# Altium schematic symbol library Real-Time Clocks (RTCs).SchLib: 548 symbols (part 9 of 13)
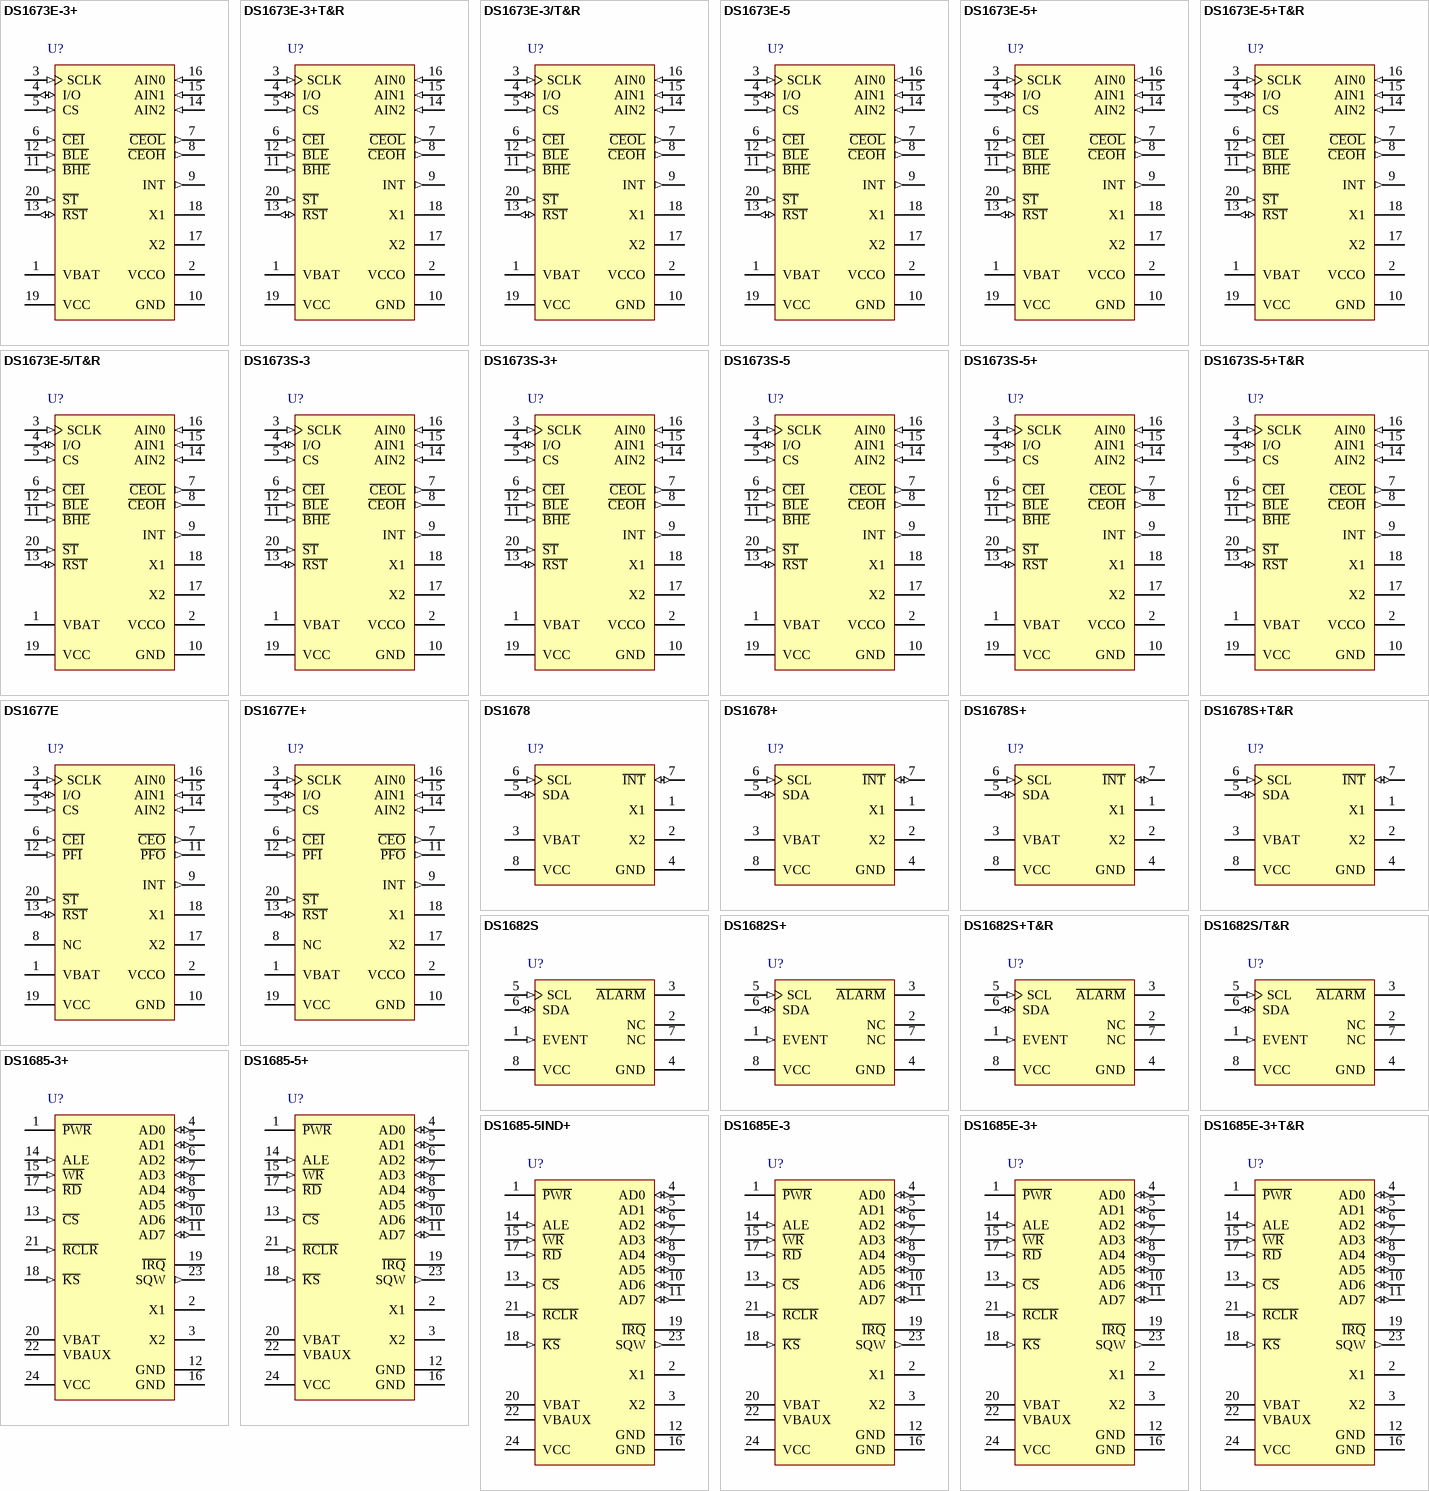
[diagram p29: symbols DS1673E-3+ to DS1685E-3+T&R]

## DS1682S+
designator U?
I2C-Compatible Total Elapsed Time Recorder with Alarm, 8-Pin SO, -40 to 85 degC, Pb-Free; DatasheetVersion: Oct-2005; PackageVersion: revC, 2010; PackageReference: S8+5; PackageDescription: 8-Pin Small-Outline IC, Narrow (0.15in), 1.27 mm Pitch, SOIC (N), Pb-Free; Code_JEDEC: MS-012-AA; Code_IPC: SOIC127P600-8; ComponentLink1Description: Manufacturer URL; ComponentLink1URL: http://www.maxim-ic.com; ComponentLink2Description: Datasheet; ComponentLink2URL: http://datasheets.maxim-ic.com/en/ds/DS1682.pdf; ComponentLink3Description: Package Specification; ComponentLink3URL: http://pdfserv.maxim-ic.com/package_dwgs/21-0041.PDF
footprint S8+5_N (SOIC, 8-Leads, Body 4.9x3.9mm, Pitch 1.27mm, IPC Medium Density)
footprint S8+5_L (SOIC, 8-Leads, Body 4.9x3.9mm, Pitch 1.27mm, IPC High Density)
footprint S8+5_M (SOIC, 8-Leads, Body 4.9x3.9mm, Pitch 1.27mm, IPC Low Density)
pins: 1 EVENT (in), 2 NC, 3 ~{ALARM} (oc), 4 GND (power), 5 SCL (in), 6 SDA (io), 7 NC, 8 VCC (power)

## DS1682S+T&R
designator U?
I2C-Compatible Total Elapsed Time Recorder with Alarm, 8-Pin SO, -40 to 85 degC, Pb-Free, Reel; DatasheetVersion: Oct-2005; PackageVersion: revC, 2010; PackageReference: S8+5; PackageDescription: 8-Pin Small-Outline IC, Narrow (0.15in), 1.27 mm Pitch, SOIC (N), Pb-Free; Code_JEDEC: MS-012-AA; Code_IPC: SOIC127P600-8; ComponentLink1Description: Manufacturer URL; ComponentLink1URL: http://www.maxim-ic.com; ComponentLink2Description: Datasheet; ComponentLink2URL: http://datasheets.maxim-ic.com/en/ds/DS1682.pdf; ComponentLink3Description: Package Specification; ComponentLink3URL: http://pdfserv.maxim-ic.com/package_dwgs/21-0041.PDF
footprint S8+5_N (SOIC, 8-Leads, Body 4.9x3.9mm, Pitch 1.27mm, IPC Medium Density)
footprint S8+5_L (SOIC, 8-Leads, Body 4.9x3.9mm, Pitch 1.27mm, IPC High Density)
footprint S8+5_M (SOIC, 8-Leads, Body 4.9x3.9mm, Pitch 1.27mm, IPC Low Density)
pins: 1 EVENT (in), 2 NC, 3 ~{ALARM} (oc), 4 GND (power), 5 SCL (in), 6 SDA (io), 7 NC, 8 VCC (power)

## DS1682S/T&R
designator U?
I2C-Compatible Total Elapsed Time Recorder with Alarm, 8-Pin SO, -40 to 85 degC, Reel; DatasheetVersion: Oct-2005; PackageVersion: revC, 2010; PackageReference: S8-2; PackageDescription: 8-Pin Small-Outline IC, Narrow (0.15in), 1.27 mm Pitch, SOIC (N); Code_JEDEC: MS-012-AA; Code_IPC: SOIC127P600-8; ComponentLink1Description: Manufacturer URL; ComponentLink1URL: http://www.maxim-ic.com; ComponentLink2Description: Datasheet; ComponentLink2URL: http://datasheets.maxim-ic.com/en/ds/DS1682.pdf; ComponentLink3Description: Package Specification; ComponentLink3URL: http://pdfserv.maxim-ic.com/package_dwgs/21-0041.PDF
footprint S8-2_N (SOIC, 8-Leads, Body 4.9x3.9mm, Pitch 1.27mm, IPC Medium Density)
footprint S8-2_L (SOIC, 8-Leads, Body 4.9x3.9mm, Pitch 1.27mm, IPC High Density)
footprint S8-2_M (SOIC, 8-Leads, Body 4.9x3.9mm, Pitch 1.27mm, IPC Low Density)
pins: 1 EVENT (in), 2 NC, 3 ~{ALARM} (oc), 4 GND (power), 5 SCL (in), 6 SDA (io), 7 NC, 8 VCC (power)

## DS1685-3+
designator U?
Real-Time Clock, 242 Byte Battery-Backed NV RAM, 3.0V, 24-Pin PDIP, 0 to 70 degC, Pb-Free; DatasheetVersion: Apr-2010; PackageVersion: revD, 2011; PackageReference: P24+3; PackageDescription: 24-Pin Plastic Dual-In-Line, 0.6in Wide, PDIP(W), Pb-Free; Code_JEDEC: MS-011-AA; ComponentLink1Description: Manufacturer URL; ComponentLink1URL: http://www.maxim-ic.com; ComponentLink2Description: Datasheet; ComponentLink2URL: http://datasheets.maxim-ic.com/en/ds/DS1685-DS1687.pdf; ComponentLink3Description: Package Specification; ComponentLink3URL: http://pdfserv.maxim-ic.com/package_dwgs/21-0044.PDF
footprint P24+3 (DIP, 24-Leads, Row Spacing 15.24mm, Pitch 2.54mm, Body 31.8x14mm)
pins: 1 ~{PWR} (oc), 2 X1, 3 X2, 4 AD0 (io), 5 AD1 (io), 6 AD2 (io), 7 AD3 (io), 8 AD4 (io), 9 AD5 (io), 10 AD6 (io), 11 AD7 (io), 12 GND (power), 13 ~{CS} (in), 14 ALE (in), 15 ~{WR} (in), 16 GND (power), 17 ~{RD} (in), 18 ~{KS} (in), 19 ~{IRQ} (oc), 20 VBAT (power), 21 ~{RCLR} (in), 22 VBAUX (power), 23 SQW (out), 24 VCC (power)

## DS1685-5+
designator U?
Real-Time Clock, 242 Byte Battery-Backed NV RAM, 5.0V, 24-Pin PDIP, 0 to 70 degC, Pb-Free; DatasheetVersion: Apr-2010; PackageVersion: revD, 2011; PackageReference: P24+3; PackageDescription: 24-Pin Plastic Dual-In-Line, 0.6in Wide, PDIP(W), Pb-Free; Code_JEDEC: MS-011-AA; ComponentLink1Description: Manufacturer URL; ComponentLink1URL: http://www.maxim-ic.com; ComponentLink2Description: Datasheet; ComponentLink2URL: http://datasheets.maxim-ic.com/en/ds/DS1685-DS1687.pdf; ComponentLink3Description: Package Specification; ComponentLink3URL: http://pdfserv.maxim-ic.com/package_dwgs/21-0044.PDF
footprint P24+3 (DIP, 24-Leads, Row Spacing 15.24mm, Pitch 2.54mm, Body 31.8x14mm)
pins: 1 ~{PWR} (oc), 2 X1, 3 X2, 4 AD0 (io), 5 AD1 (io), 6 AD2 (io), 7 AD3 (io), 8 AD4 (io), 9 AD5 (io), 10 AD6 (io), 11 AD7 (io), 12 GND (power), 13 ~{CS} (in), 14 ALE (in), 15 ~{WR} (in), 16 GND (power), 17 ~{RD} (in), 18 ~{KS} (in), 19 ~{IRQ} (oc), 20 VBAT (power), 21 ~{RCLR} (in), 22 VBAUX (power), 23 SQW (out), 24 VCC (power)

## DS1685-5IND+
designator U?
Real-Time Clock, 242 Byte Battery-Backed NV RAM, 5.0V, 24-Pin PDIP, -40 to 85 degC, Pb-Free; DatasheetVersion: Apr-2010; PackageVersion: revD, 2011; PackageReference: P24+3; PackageDescription: 24-Pin Plastic Dual-In-Line, 0.6in Wide, PDIP(W), Pb-Free; Code_JEDEC: MS-011-AA; ComponentLink1Description: Manufacturer URL; ComponentLink1URL: http://www.maxim-ic.com; ComponentLink2Description: Datasheet; ComponentLink2URL: http://datasheets.maxim-ic.com/en/ds/DS1685-DS1687.pdf; ComponentLink3Description: Package Specification; ComponentLink3URL: http://pdfserv.maxim-ic.com/package_dwgs/21-0044.PDF
footprint P24+3 (DIP, 24-Leads, Row Spacing 15.24mm, Pitch 2.54mm, Body 31.8x14mm)
pins: 1 ~{PWR} (oc), 2 X1, 3 X2, 4 AD0 (io), 5 AD1 (io), 6 AD2 (io), 7 AD3 (io), 8 AD4 (io), 9 AD5 (io), 10 AD6 (io), 11 AD7 (io), 12 GND (power), 13 ~{CS} (in), 14 ALE (in), 15 ~{WR} (in), 16 GND (power), 17 ~{RD} (in), 18 ~{KS} (in), 19 ~{IRQ} (oc), 20 VBAT (power), 21 ~{RCLR} (in), 22 VBAUX (power), 23 SQW (out), 24 VCC (power)

## DS1685E-3
designator U?
Real-Time Clock, 242 Byte Battery-Backed NV RAM, 3.0V, 24-Pin TSSOP, 0 to 70 degC; DatasheetVersion: Apr-2010; PackageVersion: revL, 2010; PackageReference: U24-1; PackageDescription: 24-Pin Thin Shrink Small-Outline Package, 4.4 mm Body, TSSOP; Code_JEDEC: MO-153-AD; ComponentLink1Description: Manufacturer URL; ComponentLink1URL: http://www.maxim-ic.com; ComponentLink2Description: Datasheet; ComponentLink2URL: http://datasheets.maxim-ic.com/en/ds/DS1685-DS1687.pdf; ComponentLink3Description: Package Specification; ComponentLink3URL: http://pdfserv.maxim-ic.com/package_dwgs/21-0066.PDF
footprint U24-1_N (TSOP, 24-Leads, Body 7.8x4.4mm, Pitch 0.65mm, IPC Medium Density)
footprint U24-1_L (TSOP, 24-Leads, Body 7.8x4.4mm, Pitch 0.65mm, IPC High Density)
footprint U24-1_M (TSOP, 24-Leads, Body 7.8x4.4mm, Pitch 0.65mm, IPC Low Density)
pins: 1 ~{PWR} (oc), 2 X1, 3 X2, 4 AD0 (io), 5 AD1 (io), 6 AD2 (io), 7 AD3 (io), 8 AD4 (io), 9 AD5 (io), 10 AD6 (io), 11 AD7 (io), 12 GND (power), 13 ~{CS} (in), 14 ALE (in), 15 ~{WR} (in), 16 GND (power), 17 ~{RD} (in), 18 ~{KS} (in), 19 ~{IRQ} (oc), 20 VBAT (power), 21 ~{RCLR} (in), 22 VBAUX (power), 23 SQW (out), 24 VCC (power)

## DS1685E-3+
designator U?
Real-Time Clock, 242 Byte Battery-Backed NV RAM, 3.0V, 24-Pin TSSOP, 0 to 70 degC, Pb-Free; DatasheetVersion: Apr-2010; PackageVersion: revL, 2010; PackageReference: U24+1; PackageDescription: 24-Pin Thin Shrink Small-Outline Package, 4.4 mm Body, TSSOP, Pb-Free; Code_JEDEC: MO-153-AD; ComponentLink1Description: Manufacturer URL; ComponentLink1URL: http://www.maxim-ic.com; ComponentLink2Description: Datasheet; ComponentLink2URL: http://datasheets.maxim-ic.com/en/ds/DS1685-DS1687.pdf; ComponentLink3Description: Package Specification; ComponentLink3URL: http://pdfserv.maxim-ic.com/package_dwgs/21-0066.PDF
footprint U24+1_N (TSOP, 24-Leads, Body 7.8x4.4mm, Pitch 0.65mm, IPC Medium Density)
footprint U24+1_L (TSOP, 24-Leads, Body 7.8x4.4mm, Pitch 0.65mm, IPC High Density)
footprint U24+1_M (TSOP, 24-Leads, Body 7.8x4.4mm, Pitch 0.65mm, IPC Low Density)
pins: 1 ~{PWR} (oc), 2 X1, 3 X2, 4 AD0 (io), 5 AD1 (io), 6 AD2 (io), 7 AD3 (io), 8 AD4 (io), 9 AD5 (io), 10 AD6 (io), 11 AD7 (io), 12 GND (power), 13 ~{CS} (in), 14 ALE (in), 15 ~{WR} (in), 16 GND (power), 17 ~{RD} (in), 18 ~{KS} (in), 19 ~{IRQ} (oc), 20 VBAT (power), 21 ~{RCLR} (in), 22 VBAUX (power), 23 SQW (out), 24 VCC (power)

## DS1685E-3+T&R
designator U?
Real-Time Clock, 242 Byte Battery-Backed NV RAM, 3.0V, 24-Pin TSSOP, 0 to 70 degC, Pb-Free, Reel; DatasheetVersion: Apr-2010; PackageVersion: revL, 2010; PackageReference: U24+1; PackageDescription: 24-Pin Thin Shrink Small-Outline Package, 4.4 mm Body, TSSOP, Pb-Free; Code_JEDEC: MO-153-AD; ComponentLink1Description: Manufacturer URL; ComponentLink1URL: http://www.maxim-ic.com; ComponentLink2Description: Datasheet; ComponentLink2URL: http://datasheets.maxim-ic.com/en/ds/DS1685-DS1687.pdf; ComponentLink3Description: Package Specification; ComponentLink3URL: http://pdfserv.maxim-ic.com/package_dwgs/21-0066.PDF
footprint U24+1_N (TSOP, 24-Leads, Body 7.8x4.4mm, Pitch 0.65mm, IPC Medium Density)
footprint U24+1_L (TSOP, 24-Leads, Body 7.8x4.4mm, Pitch 0.65mm, IPC High Density)
footprint U24+1_M (TSOP, 24-Leads, Body 7.8x4.4mm, Pitch 0.65mm, IPC Low Density)
pins: 1 ~{PWR} (oc), 2 X1, 3 X2, 4 AD0 (io), 5 AD1 (io), 6 AD2 (io), 7 AD3 (io), 8 AD4 (io), 9 AD5 (io), 10 AD6 (io), 11 AD7 (io), 12 GND (power), 13 ~{CS} (in), 14 ALE (in), 15 ~{WR} (in), 16 GND (power), 17 ~{RD} (in), 18 ~{KS} (in), 19 ~{IRQ} (oc), 20 VBAT (power), 21 ~{RCLR} (in), 22 VBAUX (power), 23 SQW (out), 24 VCC (power)

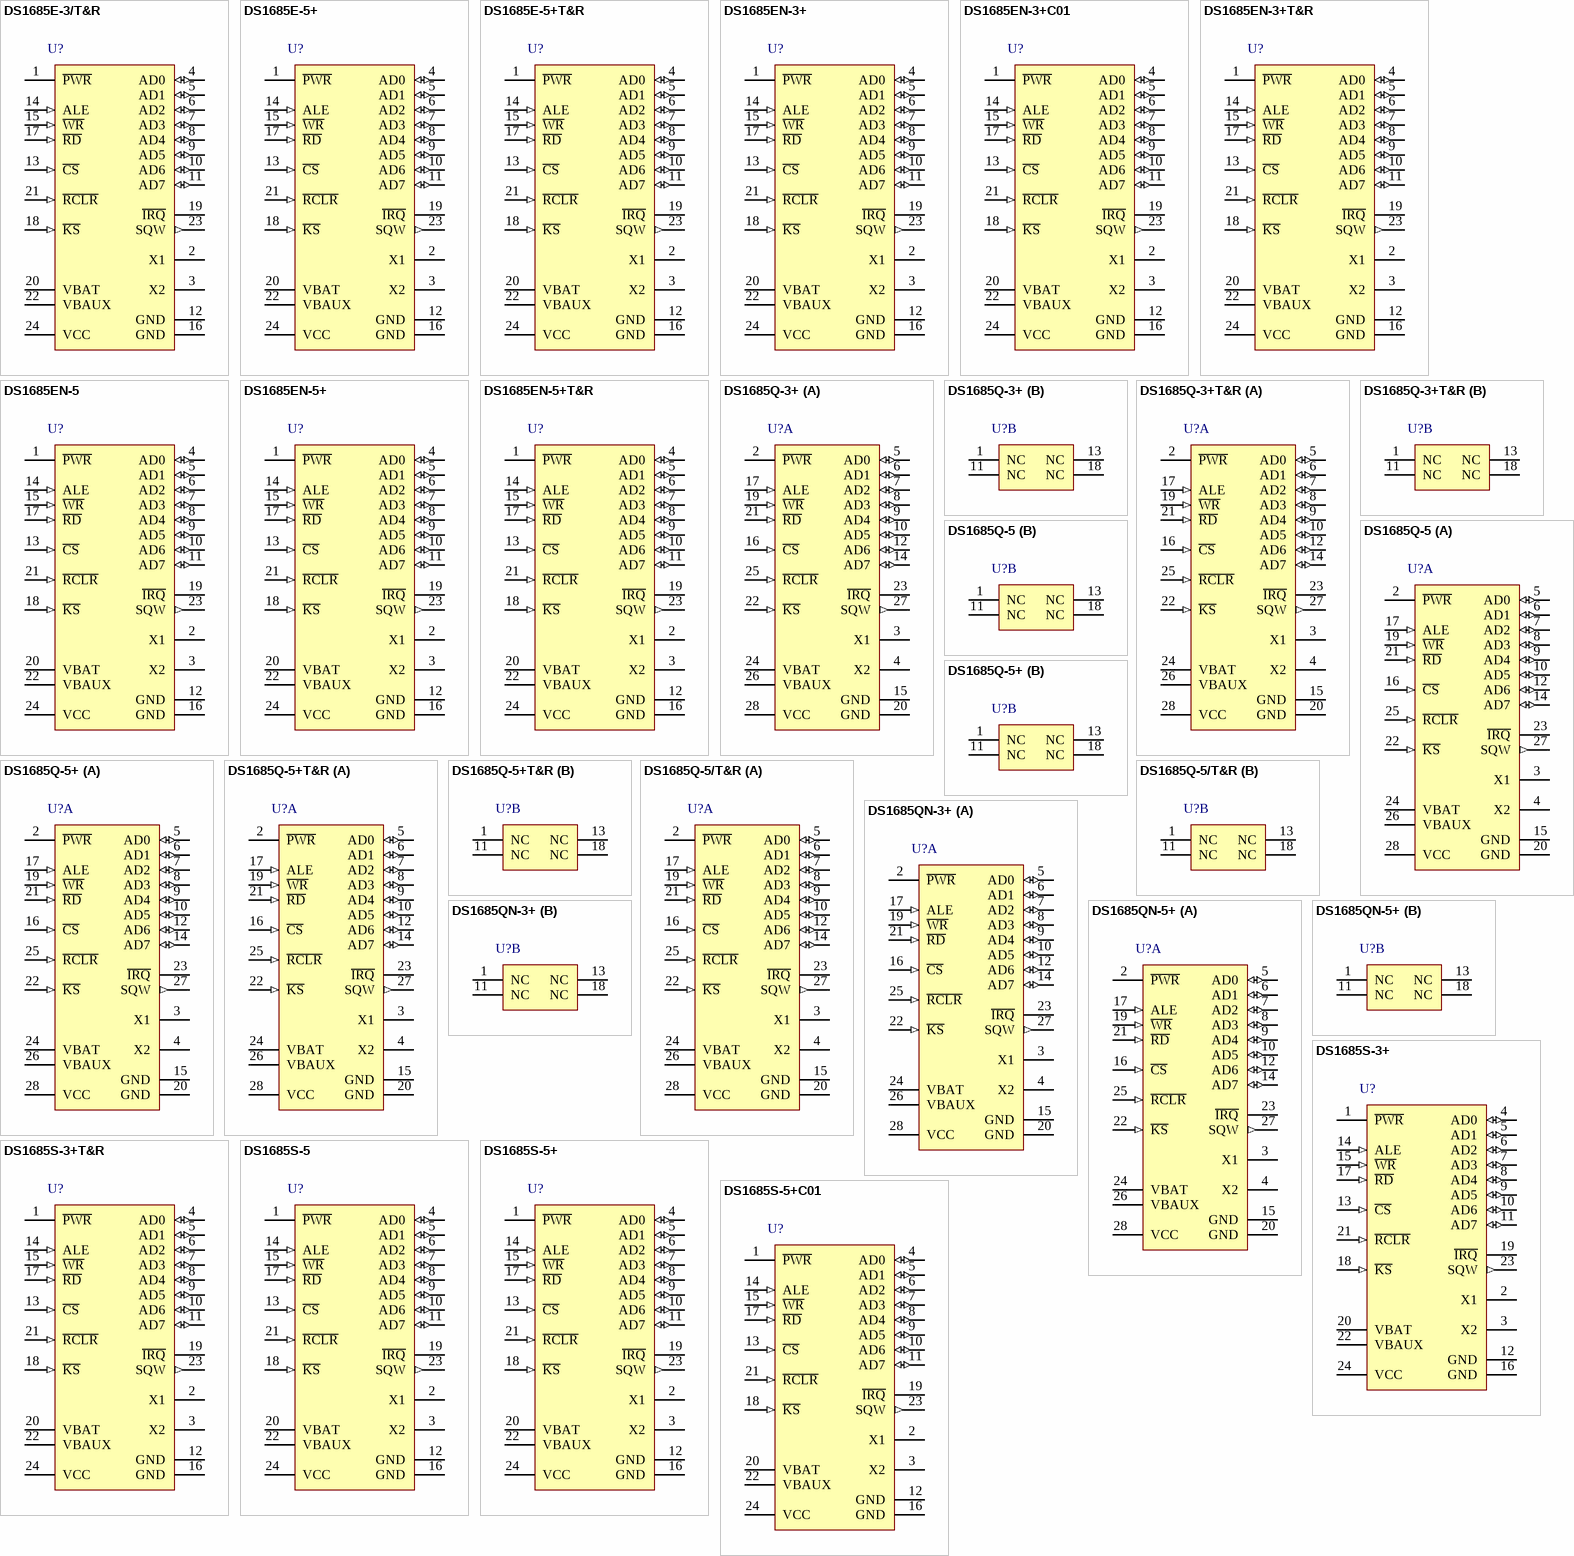
[diagram p14: symbols DS1685E-3/T&R to DS1685S-5+C01]

## DS1685E-3/T&R
designator U?
Real-Time Clock, 242 Byte Battery-Backed NV RAM, 3.0V, 24-Pin TSSOP, 0 to 70 degC, Reel; DatasheetVersion: Apr-2010; PackageVersion: revL, 2010; PackageReference: U24-1; PackageDescription: 24-Pin Thin Shrink Small-Outline Package, 4.4 mm Body, TSSOP; Code_JEDEC: MO-153-AD; ComponentLink1Description: Manufacturer URL; ComponentLink1URL: http://www.maxim-ic.com; ComponentLink2Description: Datasheet; ComponentLink2URL: http://datasheets.maxim-ic.com/en/ds/DS1685-DS1687.pdf; ComponentLink3Description: Package Specification; ComponentLink3URL: http://pdfserv.maxim-ic.com/package_dwgs/21-0066.PDF
footprint U24-1_N (TSOP, 24-Leads, Body 7.8x4.4mm, Pitch 0.65mm, IPC Medium Density)
footprint U24-1_L (TSOP, 24-Leads, Body 7.8x4.4mm, Pitch 0.65mm, IPC High Density)
footprint U24-1_M (TSOP, 24-Leads, Body 7.8x4.4mm, Pitch 0.65mm, IPC Low Density)
pins: 1 ~{PWR} (oc), 2 X1, 3 X2, 4 AD0 (io), 5 AD1 (io), 6 AD2 (io), 7 AD3 (io), 8 AD4 (io), 9 AD5 (io), 10 AD6 (io), 11 AD7 (io), 12 GND (power), 13 ~{CS} (in), 14 ALE (in), 15 ~{WR} (in), 16 GND (power), 17 ~{RD} (in), 18 ~{KS} (in), 19 ~{IRQ} (oc), 20 VBAT (power), 21 ~{RCLR} (in), 22 VBAUX (power), 23 SQW (out), 24 VCC (power)

## DS1685E-5+
designator U?
Real-Time Clock, 242 Byte Battery-Backed NV RAM, 5.0V, 24-Pin TSSOP, 0 to 70 degC, Pb-Free; DatasheetVersion: Apr-2010; PackageVersion: revL, 2010; PackageReference: U24+1; PackageDescription: 24-Pin Thin Shrink Small-Outline Package, 4.4 mm Body, TSSOP, Pb-Free; Code_JEDEC: MO-153-AD; ComponentLink1Description: Manufacturer URL; ComponentLink1URL: http://www.maxim-ic.com; ComponentLink2Description: Datasheet; ComponentLink2URL: http://datasheets.maxim-ic.com/en/ds/DS1685-DS1687.pdf; ComponentLink3Description: Package Specification; ComponentLink3URL: http://pdfserv.maxim-ic.com/package_dwgs/21-0066.PDF
footprint U24+1_N (TSOP, 24-Leads, Body 7.8x4.4mm, Pitch 0.65mm, IPC Medium Density)
footprint U24+1_L (TSOP, 24-Leads, Body 7.8x4.4mm, Pitch 0.65mm, IPC High Density)
footprint U24+1_M (TSOP, 24-Leads, Body 7.8x4.4mm, Pitch 0.65mm, IPC Low Density)
pins: 1 ~{PWR} (oc), 2 X1, 3 X2, 4 AD0 (io), 5 AD1 (io), 6 AD2 (io), 7 AD3 (io), 8 AD4 (io), 9 AD5 (io), 10 AD6 (io), 11 AD7 (io), 12 GND (power), 13 ~{CS} (in), 14 ALE (in), 15 ~{WR} (in), 16 GND (power), 17 ~{RD} (in), 18 ~{KS} (in), 19 ~{IRQ} (oc), 20 VBAT (power), 21 ~{RCLR} (in), 22 VBAUX (power), 23 SQW (out), 24 VCC (power)

## DS1685E-5+T&R
designator U?
Real-Time Clock, 242 Byte Battery-Backed NV RAM, 5.0V, 24-Pin TSSOP, 0 to 70 degC, Pb-Free, Reel; DatasheetVersion: Apr-2010; PackageVersion: revL, 2010; PackageReference: U24+1; PackageDescription: 24-Pin Thin Shrink Small-Outline Package, 4.4 mm Body, TSSOP, Pb-Free; Code_JEDEC: MO-153-AD; ComponentLink1Description: Manufacturer URL; ComponentLink1URL: http://www.maxim-ic.com; ComponentLink2Description: Datasheet; ComponentLink2URL: http://datasheets.maxim-ic.com/en/ds/DS1685-DS1687.pdf; ComponentLink3Description: Package Specification; ComponentLink3URL: http://pdfserv.maxim-ic.com/package_dwgs/21-0066.PDF
footprint U24+1_N (TSOP, 24-Leads, Body 7.8x4.4mm, Pitch 0.65mm, IPC Medium Density)
footprint U24+1_L (TSOP, 24-Leads, Body 7.8x4.4mm, Pitch 0.65mm, IPC High Density)
footprint U24+1_M (TSOP, 24-Leads, Body 7.8x4.4mm, Pitch 0.65mm, IPC Low Density)
pins: 1 ~{PWR} (oc), 2 X1, 3 X2, 4 AD0 (io), 5 AD1 (io), 6 AD2 (io), 7 AD3 (io), 8 AD4 (io), 9 AD5 (io), 10 AD6 (io), 11 AD7 (io), 12 GND (power), 13 ~{CS} (in), 14 ALE (in), 15 ~{WR} (in), 16 GND (power), 17 ~{RD} (in), 18 ~{KS} (in), 19 ~{IRQ} (oc), 20 VBAT (power), 21 ~{RCLR} (in), 22 VBAUX (power), 23 SQW (out), 24 VCC (power)

## DS1685EN-3+
designator U?
Real-Time Clock, 242 Byte Battery-Backed NV RAM, 3.0V, 24-Pin TSSOP, -40 to 85 degC, Pb-Free; DatasheetVersion: Apr-2010; PackageVersion: revL, 2010; PackageReference: U24+1; PackageDescription: 24-Pin Thin Shrink Small-Outline Package, 4.4 mm Body, TSSOP, Pb-Free; Code_JEDEC: MO-153-AD; ComponentLink1Description: Manufacturer URL; ComponentLink1URL: http://www.maxim-ic.com; ComponentLink2Description: Datasheet; ComponentLink2URL: http://datasheets.maxim-ic.com/en/ds/DS1685-DS1687.pdf; ComponentLink3Description: Package Specification; ComponentLink3URL: http://pdfserv.maxim-ic.com/package_dwgs/21-0066.PDF
footprint U24+1_N (TSOP, 24-Leads, Body 7.8x4.4mm, Pitch 0.65mm, IPC Medium Density)
footprint U24+1_L (TSOP, 24-Leads, Body 7.8x4.4mm, Pitch 0.65mm, IPC High Density)
footprint U24+1_M (TSOP, 24-Leads, Body 7.8x4.4mm, Pitch 0.65mm, IPC Low Density)
pins: 1 ~{PWR} (oc), 2 X1, 3 X2, 4 AD0 (io), 5 AD1 (io), 6 AD2 (io), 7 AD3 (io), 8 AD4 (io), 9 AD5 (io), 10 AD6 (io), 11 AD7 (io), 12 GND (power), 13 ~{CS} (in), 14 ALE (in), 15 ~{WR} (in), 16 GND (power), 17 ~{RD} (in), 18 ~{KS} (in), 19 ~{IRQ} (oc), 20 VBAT (power), 21 ~{RCLR} (in), 22 VBAUX (power), 23 SQW (out), 24 VCC (power)

## DS1685EN-3+C01
designator U?
Real-Time Clock, 242 Byte Battery-Backed NV RAM, 3.0V, 24-Pin TSSOP, -40 to 85 degC, Pb-Free; DatasheetVersion: Apr-2010; PackageVersion: revL, 2010; PackageReference: U24+1; PackageDescription: 24-Pin Thin Shrink Small-Outline Package, 4.4 mm Body, TSSOP, Pb-Free; Code_JEDEC: MO-153-AD; ComponentLink1Description: Manufacturer URL; ComponentLink1URL: http://www.maxim-ic.com; ComponentLink2Description: Datasheet; ComponentLink2URL: http://datasheets.maxim-ic.com/en/ds/DS1685-DS1687.pdf; ComponentLink3Description: Package Specification; ComponentLink3URL: http://pdfserv.maxim-ic.com/package_dwgs/21-0066.PDF
footprint U24+1_N (TSOP, 24-Leads, Body 7.8x4.4mm, Pitch 0.65mm, IPC Medium Density)
footprint U24+1_L (TSOP, 24-Leads, Body 7.8x4.4mm, Pitch 0.65mm, IPC High Density)
footprint U24+1_M (TSOP, 24-Leads, Body 7.8x4.4mm, Pitch 0.65mm, IPC Low Density)
pins: 1 ~{PWR} (oc), 2 X1, 3 X2, 4 AD0 (io), 5 AD1 (io), 6 AD2 (io), 7 AD3 (io), 8 AD4 (io), 9 AD5 (io), 10 AD6 (io), 11 AD7 (io), 12 GND (power), 13 ~{CS} (in), 14 ALE (in), 15 ~{WR} (in), 16 GND (power), 17 ~{RD} (in), 18 ~{KS} (in), 19 ~{IRQ} (oc), 20 VBAT (power), 21 ~{RCLR} (in), 22 VBAUX (power), 23 SQW (out), 24 VCC (power)

## DS1685EN-3+T&R
designator U?
Real-Time Clock, 242 Byte Battery-Backed NV RAM, 3.0V, 24-Pin TSSOP, -40 to 85 degC, Pb-Free, Reel; DatasheetVersion: Apr-2010; PackageVersion: revL, 2010; PackageReference: U24+1; PackageDescription: 24-Pin Thin Shrink Small-Outline Package, 4.4 mm Body, TSSOP, Pb-Free; Code_JEDEC: MO-153-AD; ComponentLink1Description: Manufacturer URL; ComponentLink1URL: http://www.maxim-ic.com; ComponentLink2Description: Datasheet; ComponentLink2URL: http://datasheets.maxim-ic.com/en/ds/DS1685-DS1687.pdf; ComponentLink3Description: Package Specification; ComponentLink3URL: http://pdfserv.maxim-ic.com/package_dwgs/21-0066.PDF
footprint U24+1_N (TSOP, 24-Leads, Body 7.8x4.4mm, Pitch 0.65mm, IPC Medium Density)
footprint U24+1_L (TSOP, 24-Leads, Body 7.8x4.4mm, Pitch 0.65mm, IPC High Density)
footprint U24+1_M (TSOP, 24-Leads, Body 7.8x4.4mm, Pitch 0.65mm, IPC Low Density)
pins: 1 ~{PWR} (oc), 2 X1, 3 X2, 4 AD0 (io), 5 AD1 (io), 6 AD2 (io), 7 AD3 (io), 8 AD4 (io), 9 AD5 (io), 10 AD6 (io), 11 AD7 (io), 12 GND (power), 13 ~{CS} (in), 14 ALE (in), 15 ~{WR} (in), 16 GND (power), 17 ~{RD} (in), 18 ~{KS} (in), 19 ~{IRQ} (oc), 20 VBAT (power), 21 ~{RCLR} (in), 22 VBAUX (power), 23 SQW (out), 24 VCC (power)

## DS1685EN-5
designator U?
Real-Time Clock, 242 Byte Battery-Backed NV RAM, 5.0V, 24-Pin TSSOP, -40 to 85 degC; DatasheetVersion: Apr-2010; PackageVersion: revL, 2010; PackageReference: U24-1; PackageDescription: 24-Pin Thin Shrink Small-Outline Package, 4.4 mm Body, TSSOP; Code_JEDEC: MO-153-AD; ComponentLink1Description: Manufacturer URL; ComponentLink1URL: http://www.maxim-ic.com; ComponentLink2Description: Datasheet; ComponentLink2URL: http://datasheets.maxim-ic.com/en/ds/DS1685-DS1687.pdf; ComponentLink3Description: Package Specification; ComponentLink3URL: http://pdfserv.maxim-ic.com/package_dwgs/21-0066.PDF
footprint U24-1_N (TSOP, 24-Leads, Body 7.8x4.4mm, Pitch 0.65mm, IPC Medium Density)
footprint U24-1_L (TSOP, 24-Leads, Body 7.8x4.4mm, Pitch 0.65mm, IPC High Density)
footprint U24-1_M (TSOP, 24-Leads, Body 7.8x4.4mm, Pitch 0.65mm, IPC Low Density)
pins: 1 ~{PWR} (oc), 2 X1, 3 X2, 4 AD0 (io), 5 AD1 (io), 6 AD2 (io), 7 AD3 (io), 8 AD4 (io), 9 AD5 (io), 10 AD6 (io), 11 AD7 (io), 12 GND (power), 13 ~{CS} (in), 14 ALE (in), 15 ~{WR} (in), 16 GND (power), 17 ~{RD} (in), 18 ~{KS} (in), 19 ~{IRQ} (oc), 20 VBAT (power), 21 ~{RCLR} (in), 22 VBAUX (power), 23 SQW (out), 24 VCC (power)

## DS1685EN-5+
designator U?
Real-Time Clock, 242 Byte Battery-Backed NV RAM, 5.0V, 24-Pin TSSOP, -40 to 85 degC, Pb-Free; DatasheetVersion: Apr-2010; PackageVersion: revL, 2010; PackageReference: U24+1; PackageDescription: 24-Pin Thin Shrink Small-Outline Package, 4.4 mm Body, TSSOP, Pb-Free; Code_JEDEC: MO-153-AD; ComponentLink1Description: Manufacturer URL; ComponentLink1URL: http://www.maxim-ic.com; ComponentLink2Description: Datasheet; ComponentLink2URL: http://datasheets.maxim-ic.com/en/ds/DS1685-DS1687.pdf; ComponentLink3Description: Package Specification; ComponentLink3URL: http://pdfserv.maxim-ic.com/package_dwgs/21-0066.PDF
footprint U24+1_N (TSOP, 24-Leads, Body 7.8x4.4mm, Pitch 0.65mm, IPC Medium Density)
footprint U24+1_L (TSOP, 24-Leads, Body 7.8x4.4mm, Pitch 0.65mm, IPC High Density)
footprint U24+1_M (TSOP, 24-Leads, Body 7.8x4.4mm, Pitch 0.65mm, IPC Low Density)
pins: 1 ~{PWR} (oc), 2 X1, 3 X2, 4 AD0 (io), 5 AD1 (io), 6 AD2 (io), 7 AD3 (io), 8 AD4 (io), 9 AD5 (io), 10 AD6 (io), 11 AD7 (io), 12 GND (power), 13 ~{CS} (in), 14 ALE (in), 15 ~{WR} (in), 16 GND (power), 17 ~{RD} (in), 18 ~{KS} (in), 19 ~{IRQ} (oc), 20 VBAT (power), 21 ~{RCLR} (in), 22 VBAUX (power), 23 SQW (out), 24 VCC (power)

## DS1685EN-5+T&R
designator U?
Real-Time Clock, 242 Byte Battery-Backed NV RAM, 5.0V, 24-Pin TSSOP, -40 to 85 degC, Pb-Free, Reel; DatasheetVersion: Apr-2010; PackageVersion: revL, 2010; PackageReference: U24+1; PackageDescription: 24-Pin Thin Shrink Small-Outline Package, 4.4 mm Body, TSSOP, Pb-Free; Code_JEDEC: MO-153-AD; ComponentLink1Description: Manufacturer URL; ComponentLink1URL: http://www.maxim-ic.com; ComponentLink2Description: Datasheet; ComponentLink2URL: http://datasheets.maxim-ic.com/en/ds/DS1685-DS1687.pdf; ComponentLink3Description: Package Specification; ComponentLink3URL: http://pdfserv.maxim-ic.com/package_dwgs/21-0066.PDF
footprint U24+1_N (TSOP, 24-Leads, Body 7.8x4.4mm, Pitch 0.65mm, IPC Medium Density)
footprint U24+1_L (TSOP, 24-Leads, Body 7.8x4.4mm, Pitch 0.65mm, IPC High Density)
footprint U24+1_M (TSOP, 24-Leads, Body 7.8x4.4mm, Pitch 0.65mm, IPC Low Density)
pins: 1 ~{PWR} (oc), 2 X1, 3 X2, 4 AD0 (io), 5 AD1 (io), 6 AD2 (io), 7 AD3 (io), 8 AD4 (io), 9 AD5 (io), 10 AD6 (io), 11 AD7 (io), 12 GND (power), 13 ~{CS} (in), 14 ALE (in), 15 ~{WR} (in), 16 GND (power), 17 ~{RD} (in), 18 ~{KS} (in), 19 ~{IRQ} (oc), 20 VBAT (power), 21 ~{RCLR} (in), 22 VBAUX (power), 23 SQW (out), 24 VCC (power)

## DS1685Q-3+
designator U?
Real-Time Clock, 242 Byte Battery-Backed NV RAM, 3.0V, 28-Pin PLCC, 0 to 70 degC, Pb-Free; DatasheetVersion: Apr-2010; PackageVersion: revE, 2009; PackageReference: Q28+4; PackageDescription: 28-Pin Plastic Leaded Chip Carrier 1.27 mm Pitch, PLCC, Pb-Free; Code_JEDEC: MO-047-AB; ComponentLink1Description: Manufacturer URL; ComponentLink1URL: http://www.maxim-ic.com; ComponentLink2Description: Datasheet; ComponentLink2URL: http://datasheets.maxim-ic.com/en/ds/DS1685-DS1687.pdf; ComponentLink3Description: Package Specification; ComponentLink3URL: http://pdfserv.maxim-ic.com/package_dwgs/21-0049.PDF
footprint Q28+4_N (Leaded Chip Carrier, 28-Leads, Body 11.5x11.5mm, Pitch 1.27mm, IPC Medium Density)
footprint Q28+4_L (Leaded Chip Carrier, 28-Leads, Body 11.5x11.5mm, Pitch 1.27mm, IPC High Density)
footprint Q28+4_M (Leaded Chip Carrier, 28-Leads, Body 11.5x11.5mm, Pitch 1.27mm, IPC Low Density)
part A pins: 2 ~{PWR} (oc), 3 X1, 4 X2, 5 AD0 (io), 6 AD1 (io), 7 AD2 (io), 8 AD3 (io), 9 AD4 (io), 10 AD5 (io), 12 AD6 (io), 14 AD7 (io), 15 GND (power), 16 ~{CS} (in), 17 ALE (in), 19 ~{WR} (in), 20 GND (power), 21 ~{RD} (in), 22 ~{KS} (in), 23 ~{IRQ} (oc), 24 VBAT (power), 25 ~{RCLR} (in), 26 VBAUX (power), 27 SQW (out), 28 VCC (power)
part B pins: 1 NC, 11 NC, 13 NC, 18 NC

## DS1685Q-3+T&R
designator U?
Real-Time Clock, 242 Byte Battery-Backed NV RAM, 3.0V, 28-Pin PLCC, 0 to 70 degC, Pb-Free, Reel; DatasheetVersion: Apr-2010; PackageVersion: revE, 2009; PackageReference: Q28+4; PackageDescription: 28-Pin Plastic Leaded Chip Carrier 1.27 mm Pitch, PLCC, Pb-Free; Code_JEDEC: MO-047-AB; ComponentLink1Description: Manufacturer URL; ComponentLink1URL: http://www.maxim-ic.com; ComponentLink2Description: Datasheet; ComponentLink2URL: http://datasheets.maxim-ic.com/en/ds/DS1685-DS1687.pdf; ComponentLink3Description: Package Specification; ComponentLink3URL: http://pdfserv.maxim-ic.com/package_dwgs/21-0049.PDF
footprint Q28+4_N (Leaded Chip Carrier, 28-Leads, Body 11.5x11.5mm, Pitch 1.27mm, IPC Medium Density)
footprint Q28+4_L (Leaded Chip Carrier, 28-Leads, Body 11.5x11.5mm, Pitch 1.27mm, IPC High Density)
footprint Q28+4_M (Leaded Chip Carrier, 28-Leads, Body 11.5x11.5mm, Pitch 1.27mm, IPC Low Density)
part A pins: 2 ~{PWR} (oc), 3 X1, 4 X2, 5 AD0 (io), 6 AD1 (io), 7 AD2 (io), 8 AD3 (io), 9 AD4 (io), 10 AD5 (io), 12 AD6 (io), 14 AD7 (io), 15 GND (power), 16 ~{CS} (in), 17 ALE (in), 19 ~{WR} (in), 20 GND (power), 21 ~{RD} (in), 22 ~{KS} (in), 23 ~{IRQ} (oc), 24 VBAT (power), 25 ~{RCLR} (in), 26 VBAUX (power), 27 SQW (out), 28 VCC (power)
part B pins: 1 NC, 11 NC, 13 NC, 18 NC

## DS1685Q-5
designator U?
Real-Time Clock, 242 Byte Battery-Backed NV RAM, 5.0V, 28-Pin PLCC, 0 to 70 degC; DatasheetVersion: Apr-2010; PackageVersion: revE, 2009; PackageReference: Q28-3; PackageDescription: 28-Pin Plastic Leaded Chip Carrier 1.27 mm Pitch, PLCC; Code_JEDEC: MO-047-AB; ComponentLink1Description: Manufacturer URL; ComponentLink1URL: http://www.maxim-ic.com; ComponentLink2Description: Datasheet; ComponentLink2URL: http://datasheets.maxim-ic.com/en/ds/DS1685-DS1687.pdf; ComponentLink3Description: Package Specification; ComponentLink3URL: http://pdfserv.maxim-ic.com/package_dwgs/21-0049.PDF
footprint Q28-3_N (Leaded Chip Carrier, 28-Leads, Body 11.5x11.5mm, Pitch 1.27mm, IPC Medium Density)
footprint Q28-3_L (Leaded Chip Carrier, 28-Leads, Body 11.5x11.5mm, Pitch 1.27mm, IPC High Density)
footprint Q28-3_M (Leaded Chip Carrier, 28-Leads, Body 11.5x11.5mm, Pitch 1.27mm, IPC Low Density)
part A pins: 2 ~{PWR} (oc), 3 X1, 4 X2, 5 AD0 (io), 6 AD1 (io), 7 AD2 (io), 8 AD3 (io), 9 AD4 (io), 10 AD5 (io), 12 AD6 (io), 14 AD7 (io), 15 GND (power), 16 ~{CS} (in), 17 ALE (in), 19 ~{WR} (in), 20 GND (power), 21 ~{RD} (in), 22 ~{KS} (in), 23 ~{IRQ} (oc), 24 VBAT (power), 25 ~{RCLR} (in), 26 VBAUX (power), 27 SQW (out), 28 VCC (power)
part B pins: 1 NC, 11 NC, 13 NC, 18 NC

## DS1685Q-5+
designator U?
Real-Time Clock, 242 Byte Battery-Backed NV RAM, 5.0V, 28-Pin PLCC, 0 to 70 degC, Pb-Free; DatasheetVersion: Apr-2010; PackageVersion: revE, 2009; PackageReference: Q28+4; PackageDescription: 28-Pin Plastic Leaded Chip Carrier 1.27 mm Pitch, PLCC, Pb-Free; Code_JEDEC: MO-047-AB; ComponentLink1Description: Manufacturer URL; ComponentLink1URL: http://www.maxim-ic.com; ComponentLink2Description: Datasheet; ComponentLink2URL: http://datasheets.maxim-ic.com/en/ds/DS1685-DS1687.pdf; ComponentLink3Description: Package Specification; ComponentLink3URL: http://pdfserv.maxim-ic.com/package_dwgs/21-0049.PDF
footprint Q28+4_N (Leaded Chip Carrier, 28-Leads, Body 11.5x11.5mm, Pitch 1.27mm, IPC Medium Density)
footprint Q28+4_L (Leaded Chip Carrier, 28-Leads, Body 11.5x11.5mm, Pitch 1.27mm, IPC High Density)
footprint Q28+4_M (Leaded Chip Carrier, 28-Leads, Body 11.5x11.5mm, Pitch 1.27mm, IPC Low Density)
part A pins: 2 ~{PWR} (oc), 3 X1, 4 X2, 5 AD0 (io), 6 AD1 (io), 7 AD2 (io), 8 AD3 (io), 9 AD4 (io), 10 AD5 (io), 12 AD6 (io), 14 AD7 (io), 15 GND (power), 16 ~{CS} (in), 17 ALE (in), 19 ~{WR} (in), 20 GND (power), 21 ~{RD} (in), 22 ~{KS} (in), 23 ~{IRQ} (oc), 24 VBAT (power), 25 ~{RCLR} (in), 26 VBAUX (power), 27 SQW (out), 28 VCC (power)
part B pins: 1 NC, 11 NC, 13 NC, 18 NC

## DS1685Q-5+T&R
designator U?
Real-Time Clock, 242 Byte Battery-Backed NV RAM, 5.0V, 28-Pin PLCC, 0 to 70 degC, Pb-Free, Reel; DatasheetVersion: Apr-2010; PackageVersion: revE, 2009; PackageReference: Q28+4; PackageDescription: 28-Pin Plastic Leaded Chip Carrier 1.27 mm Pitch, PLCC, Pb-Free; Code_JEDEC: MO-047-AB; ComponentLink1Description: Manufacturer URL; ComponentLink1URL: http://www.maxim-ic.com; ComponentLink2Description: Datasheet; ComponentLink2URL: http://datasheets.maxim-ic.com/en/ds/DS1685-DS1687.pdf; ComponentLink3Description: Package Specification; ComponentLink3URL: http://pdfserv.maxim-ic.com/package_dwgs/21-0049.PDF
footprint Q28+4_N (Leaded Chip Carrier, 28-Leads, Body 11.5x11.5mm, Pitch 1.27mm, IPC Medium Density)
footprint Q28+4_L (Leaded Chip Carrier, 28-Leads, Body 11.5x11.5mm, Pitch 1.27mm, IPC High Density)
footprint Q28+4_M (Leaded Chip Carrier, 28-Leads, Body 11.5x11.5mm, Pitch 1.27mm, IPC Low Density)
part A pins: 2 ~{PWR} (oc), 3 X1, 4 X2, 5 AD0 (io), 6 AD1 (io), 7 AD2 (io), 8 AD3 (io), 9 AD4 (io), 10 AD5 (io), 12 AD6 (io), 14 AD7 (io), 15 GND (power), 16 ~{CS} (in), 17 ALE (in), 19 ~{WR} (in), 20 GND (power), 21 ~{RD} (in), 22 ~{KS} (in), 23 ~{IRQ} (oc), 24 VBAT (power), 25 ~{RCLR} (in), 26 VBAUX (power), 27 SQW (out), 28 VCC (power)
part B pins: 1 NC, 11 NC, 13 NC, 18 NC

## DS1685Q-5/T&R
designator U?
Real-Time Clock, 242 Byte Battery-Backed NV RAM, 5.0V, 28-Pin PLCC, 0 to 70 degC, Reel; DatasheetVersion: Apr-2010; PackageVersion: revE, 2009; PackageReference: Q28-3; PackageDescription: 28-Pin Plastic Leaded Chip Carrier 1.27 mm Pitch, PLCC; Code_JEDEC: MO-047-AB; ComponentLink1Description: Manufacturer URL; ComponentLink1URL: http://www.maxim-ic.com; ComponentLink2Description: Datasheet; ComponentLink2URL: http://datasheets.maxim-ic.com/en/ds/DS1685-DS1687.pdf; ComponentLink3Description: Package Specification; ComponentLink3URL: http://pdfserv.maxim-ic.com/package_dwgs/21-0049.PDF
footprint Q28-3_N (Leaded Chip Carrier, 28-Leads, Body 11.5x11.5mm, Pitch 1.27mm, IPC Medium Density)
footprint Q28-3_L (Leaded Chip Carrier, 28-Leads, Body 11.5x11.5mm, Pitch 1.27mm, IPC High Density)
footprint Q28-3_M (Leaded Chip Carrier, 28-Leads, Body 11.5x11.5mm, Pitch 1.27mm, IPC Low Density)
part A pins: 2 ~{PWR} (oc), 3 X1, 4 X2, 5 AD0 (io), 6 AD1 (io), 7 AD2 (io), 8 AD3 (io), 9 AD4 (io), 10 AD5 (io), 12 AD6 (io), 14 AD7 (io), 15 GND (power), 16 ~{CS} (in), 17 ALE (in), 19 ~{WR} (in), 20 GND (power), 21 ~{RD} (in), 22 ~{KS} (in), 23 ~{IRQ} (oc), 24 VBAT (power), 25 ~{RCLR} (in), 26 VBAUX (power), 27 SQW (out), 28 VCC (power)
part B pins: 1 NC, 11 NC, 13 NC, 18 NC

## DS1685QN-3+
designator U?
Real-Time Clock, 242 Byte Battery-Backed NV RAM, 3.0V, 28-Pin PLCC, -40 to 85 degC, Pb-Free; DatasheetVersion: Apr-2010; PackageVersion: revE, 2009; PackageReference: Q28+4; PackageDescription: 28-Pin Plastic Leaded Chip Carrier 1.27 mm Pitch, PLCC, Pb-Free; Code_JEDEC: MO-047-AB; ComponentLink1Description: Manufacturer URL; ComponentLink1URL: http://www.maxim-ic.com; ComponentLink2Description: Datasheet; ComponentLink2URL: http://datasheets.maxim-ic.com/en/ds/DS1685-DS1687.pdf; ComponentLink3Description: Package Specification; ComponentLink3URL: http://pdfserv.maxim-ic.com/package_dwgs/21-0049.PDF
footprint Q28+4_N (Leaded Chip Carrier, 28-Leads, Body 11.5x11.5mm, Pitch 1.27mm, IPC Medium Density)
footprint Q28+4_L (Leaded Chip Carrier, 28-Leads, Body 11.5x11.5mm, Pitch 1.27mm, IPC High Density)
footprint Q28+4_M (Leaded Chip Carrier, 28-Leads, Body 11.5x11.5mm, Pitch 1.27mm, IPC Low Density)
part A pins: 2 ~{PWR} (oc), 3 X1, 4 X2, 5 AD0 (io), 6 AD1 (io), 7 AD2 (io), 8 AD3 (io), 9 AD4 (io), 10 AD5 (io), 12 AD6 (io), 14 AD7 (io), 15 GND (power), 16 ~{CS} (in), 17 ALE (in), 19 ~{WR} (in), 20 GND (power), 21 ~{RD} (in), 22 ~{KS} (in), 23 ~{IRQ} (oc), 24 VBAT (power), 25 ~{RCLR} (in), 26 VBAUX (power), 27 SQW (out), 28 VCC (power)
part B pins: 1 NC, 11 NC, 13 NC, 18 NC

## DS1685QN-5+
designator U?
Real-Time Clock, 242 Byte Battery-Backed NV RAM, 5.0V, 28-Pin PLCC, -40 to 85 degC, Pb-Free; DatasheetVersion: Apr-2010; PackageVersion: revE, 2009; PackageReference: Q28+4; PackageDescription: 28-Pin Plastic Leaded Chip Carrier 1.27 mm Pitch, PLCC, Pb-Free; Code_JEDEC: MO-047-AB; ComponentLink1Description: Manufacturer URL; ComponentLink1URL: http://www.maxim-ic.com; ComponentLink2Description: Datasheet; ComponentLink2URL: http://datasheets.maxim-ic.com/en/ds/DS1685-DS1687.pdf; ComponentLink3Description: Package Specification; ComponentLink3URL: http://pdfserv.maxim-ic.com/package_dwgs/21-0049.PDF
footprint Q28+4_N (Leaded Chip Carrier, 28-Leads, Body 11.5x11.5mm, Pitch 1.27mm, IPC Medium Density)
footprint Q28+4_L (Leaded Chip Carrier, 28-Leads, Body 11.5x11.5mm, Pitch 1.27mm, IPC High Density)
footprint Q28+4_M (Leaded Chip Carrier, 28-Leads, Body 11.5x11.5mm, Pitch 1.27mm, IPC Low Density)
part A pins: 2 ~{PWR} (oc), 3 X1, 4 X2, 5 AD0 (io), 6 AD1 (io), 7 AD2 (io), 8 AD3 (io), 9 AD4 (io), 10 AD5 (io), 12 AD6 (io), 14 AD7 (io), 15 GND (power), 16 ~{CS} (in), 17 ALE (in), 19 ~{WR} (in), 20 GND (power), 21 ~{RD} (in), 22 ~{KS} (in), 23 ~{IRQ} (oc), 24 VBAT (power), 25 ~{RCLR} (in), 26 VBAUX (power), 27 SQW (out), 28 VCC (power)
part B pins: 1 NC, 11 NC, 13 NC, 18 NC

## DS1685S-3+
designator U?
Real-Time Clock, 242 Byte Battery-Backed NV RAM, 3.0V, 24-Pin SO, 0 to 70 degC, Pb-Free; DatasheetVersion: Apr-2010; PackageVersion: revD, 2010; PackageReference: W24+7; PackageDescription: 24-Pin Small-Outline IC, Wide (0.3in), 1.27 mm Pitch, SOIC (W), Pb-Free; Code_JEDEC: MS-013-AD; ComponentLink1Description: Manufacturer URL; ComponentLink1URL: http://www.maxim-ic.com; ComponentLink2Description: Datasheet; ComponentLink2URL: http://datasheets.maxim-ic.com/en/ds/DS1685-DS1687.pdf; ComponentLink3Description: Package Specification; ComponentLink3URL: http://pdfserv.maxim-ic.com/package_dwgs/21-0042.PDF
footprint W24+7_N (SOIC, 24-Leads, Body 15.4x7.5mm, Pitch 1.27mm, IPC Medium Density)
footprint W24+7_L (SOIC, 24-Leads, Body 15.4x7.5mm, Pitch 1.27mm, IPC High Density)
footprint W24+7_M (SOIC, 24-Leads, Body 15.4x7.5mm, Pitch 1.27mm, IPC Low Density)
pins: 1 ~{PWR} (oc), 2 X1, 3 X2, 4 AD0 (io), 5 AD1 (io), 6 AD2 (io), 7 AD3 (io), 8 AD4 (io), 9 AD5 (io), 10 AD6 (io), 11 AD7 (io), 12 GND (power), 13 ~{CS} (in), 14 ALE (in), 15 ~{WR} (in), 16 GND (power), 17 ~{RD} (in), 18 ~{KS} (in), 19 ~{IRQ} (oc), 20 VBAT (power), 21 ~{RCLR} (in), 22 VBAUX (power), 23 SQW (out), 24 VCC (power)

## DS1685S-3+T&R
designator U?
Real-Time Clock, 242 Byte Battery-Backed NV RAM, 3.0V, 24-Pin SO, 0 to 70 degC, Pb-Free, Reel; DatasheetVersion: Apr-2010; PackageVersion: revD, 2010; PackageReference: W24+7; PackageDescription: 24-Pin Small-Outline IC, Wide (0.3in), 1.27 mm Pitch, SOIC (W), Pb-Free; Code_JEDEC: MS-013-AD; ComponentLink1Description: Manufacturer URL; ComponentLink1URL: http://www.maxim-ic.com; ComponentLink2Description: Datasheet; ComponentLink2URL: http://datasheets.maxim-ic.com/en/ds/DS1685-DS1687.pdf; ComponentLink3Description: Package Specification; ComponentLink3URL: http://pdfserv.maxim-ic.com/package_dwgs/21-0042.PDF
footprint W24+7_N (SOIC, 24-Leads, Body 15.4x7.5mm, Pitch 1.27mm, IPC Medium Density)
footprint W24+7_L (SOIC, 24-Leads, Body 15.4x7.5mm, Pitch 1.27mm, IPC High Density)
footprint W24+7_M (SOIC, 24-Leads, Body 15.4x7.5mm, Pitch 1.27mm, IPC Low Density)
pins: 1 ~{PWR} (oc), 2 X1, 3 X2, 4 AD0 (io), 5 AD1 (io), 6 AD2 (io), 7 AD3 (io), 8 AD4 (io), 9 AD5 (io), 10 AD6 (io), 11 AD7 (io), 12 GND (power), 13 ~{CS} (in), 14 ALE (in), 15 ~{WR} (in), 16 GND (power), 17 ~{RD} (in), 18 ~{KS} (in), 19 ~{IRQ} (oc), 20 VBAT (power), 21 ~{RCLR} (in), 22 VBAUX (power), 23 SQW (out), 24 VCC (power)

## DS1685S-5
designator U?
Real-Time Clock, 242 Byte Battery-Backed NV RAM, 5.0V, 24-Pin SO, 0 to 70 degC; DatasheetVersion: Apr-2010; PackageVersion: revD, 2010; PackageReference: W24-7; PackageDescription: 24-Pin Small-Outline IC, Wide (0.3in), 1.27 mm Pitch, SOIC (W); Code_JEDEC: MS-013-AD; ComponentLink1Description: Manufacturer URL; ComponentLink1URL: http://www.maxim-ic.com; ComponentLink2Description: Datasheet; ComponentLink2URL: http://datasheets.maxim-ic.com/en/ds/DS1685-DS1687.pdf; ComponentLink3Description: Package Specification; ComponentLink3URL: http://pdfserv.maxim-ic.com/package_dwgs/21-0042.PDF
footprint W24-7_N (SOIC, 24-Leads, Body 15.4x7.5mm, Pitch 1.27mm, IPC Medium Density)
footprint W24-7_L (SOIC, 24-Leads, Body 15.4x7.5mm, Pitch 1.27mm, IPC High Density)
footprint W24-7_M (SOIC, 24-Leads, Body 15.4x7.5mm, Pitch 1.27mm, IPC Low Density)
pins: 1 ~{PWR} (oc), 2 X1, 3 X2, 4 AD0 (io), 5 AD1 (io), 6 AD2 (io), 7 AD3 (io), 8 AD4 (io), 9 AD5 (io), 10 AD6 (io), 11 AD7 (io), 12 GND (power), 13 ~{CS} (in), 14 ALE (in), 15 ~{WR} (in), 16 GND (power), 17 ~{RD} (in), 18 ~{KS} (in), 19 ~{IRQ} (oc), 20 VBAT (power), 21 ~{RCLR} (in), 22 VBAUX (power), 23 SQW (out), 24 VCC (power)

## DS1685S-5+
designator U?
Real-Time Clock, 242 Byte Battery-Backed NV RAM, 5.0V, 24-Pin SO, 0 to 70 degC, Pb-Free; DatasheetVersion: Apr-2010; PackageVersion: revD, 2010; PackageReference: W24+7; PackageDescription: 24-Pin Small-Outline IC, Wide (0.3in), 1.27 mm Pitch, SOIC (W), Pb-Free; Code_JEDEC: MS-013-AD; ComponentLink1Description: Manufacturer URL; ComponentLink1URL: http://www.maxim-ic.com; ComponentLink2Description: Datasheet; ComponentLink2URL: http://datasheets.maxim-ic.com/en/ds/DS1685-DS1687.pdf; ComponentLink3Description: Package Specification; ComponentLink3URL: http://pdfserv.maxim-ic.com/package_dwgs/21-0042.PDF
footprint W24+7_N (SOIC, 24-Leads, Body 15.4x7.5mm, Pitch 1.27mm, IPC Medium Density)
footprint W24+7_L (SOIC, 24-Leads, Body 15.4x7.5mm, Pitch 1.27mm, IPC High Density)
footprint W24+7_M (SOIC, 24-Leads, Body 15.4x7.5mm, Pitch 1.27mm, IPC Low Density)
pins: 1 ~{PWR} (oc), 2 X1, 3 X2, 4 AD0 (io), 5 AD1 (io), 6 AD2 (io), 7 AD3 (io), 8 AD4 (io), 9 AD5 (io), 10 AD6 (io), 11 AD7 (io), 12 GND (power), 13 ~{CS} (in), 14 ALE (in), 15 ~{WR} (in), 16 GND (power), 17 ~{RD} (in), 18 ~{KS} (in), 19 ~{IRQ} (oc), 20 VBAT (power), 21 ~{RCLR} (in), 22 VBAUX (power), 23 SQW (out), 24 VCC (power)

## DS1685S-5+C01
designator U?
Real-Time Clock, 242 Byte Battery-Backed NV RAM, 5.0V, 24-Pin SO, 0 to 70 degC, Pb-Free; DatasheetVersion: Apr-2010; PackageVersion: revD, 2010; PackageReference: W24+7; PackageDescription: 24-Pin Small-Outline IC, Wide (0.3in), 1.27 mm Pitch, SOIC (W), Pb-Free; Code_JEDEC: MS-013-AD; ComponentLink1Description: Manufacturer URL; ComponentLink1URL: http://www.maxim-ic.com; ComponentLink2Description: Datasheet; ComponentLink2URL: http://datasheets.maxim-ic.com/en/ds/DS1685-DS1687.pdf; ComponentLink3Description: Package Specification; ComponentLink3URL: http://pdfserv.maxim-ic.com/package_dwgs/21-0042.PDF
footprint W24+7_N (SOIC, 24-Leads, Body 15.4x7.5mm, Pitch 1.27mm, IPC Medium Density)
footprint W24+7_L (SOIC, 24-Leads, Body 15.4x7.5mm, Pitch 1.27mm, IPC High Density)
footprint W24+7_M (SOIC, 24-Leads, Body 15.4x7.5mm, Pitch 1.27mm, IPC Low Density)
pins: 1 ~{PWR} (oc), 2 X1, 3 X2, 4 AD0 (io), 5 AD1 (io), 6 AD2 (io), 7 AD3 (io), 8 AD4 (io), 9 AD5 (io), 10 AD6 (io), 11 AD7 (io), 12 GND (power), 13 ~{CS} (in), 14 ALE (in), 15 ~{WR} (in), 16 GND (power), 17 ~{RD} (in), 18 ~{KS} (in), 19 ~{IRQ} (oc), 20 VBAT (power), 21 ~{RCLR} (in), 22 VBAUX (power), 23 SQW (out), 24 VCC (power)

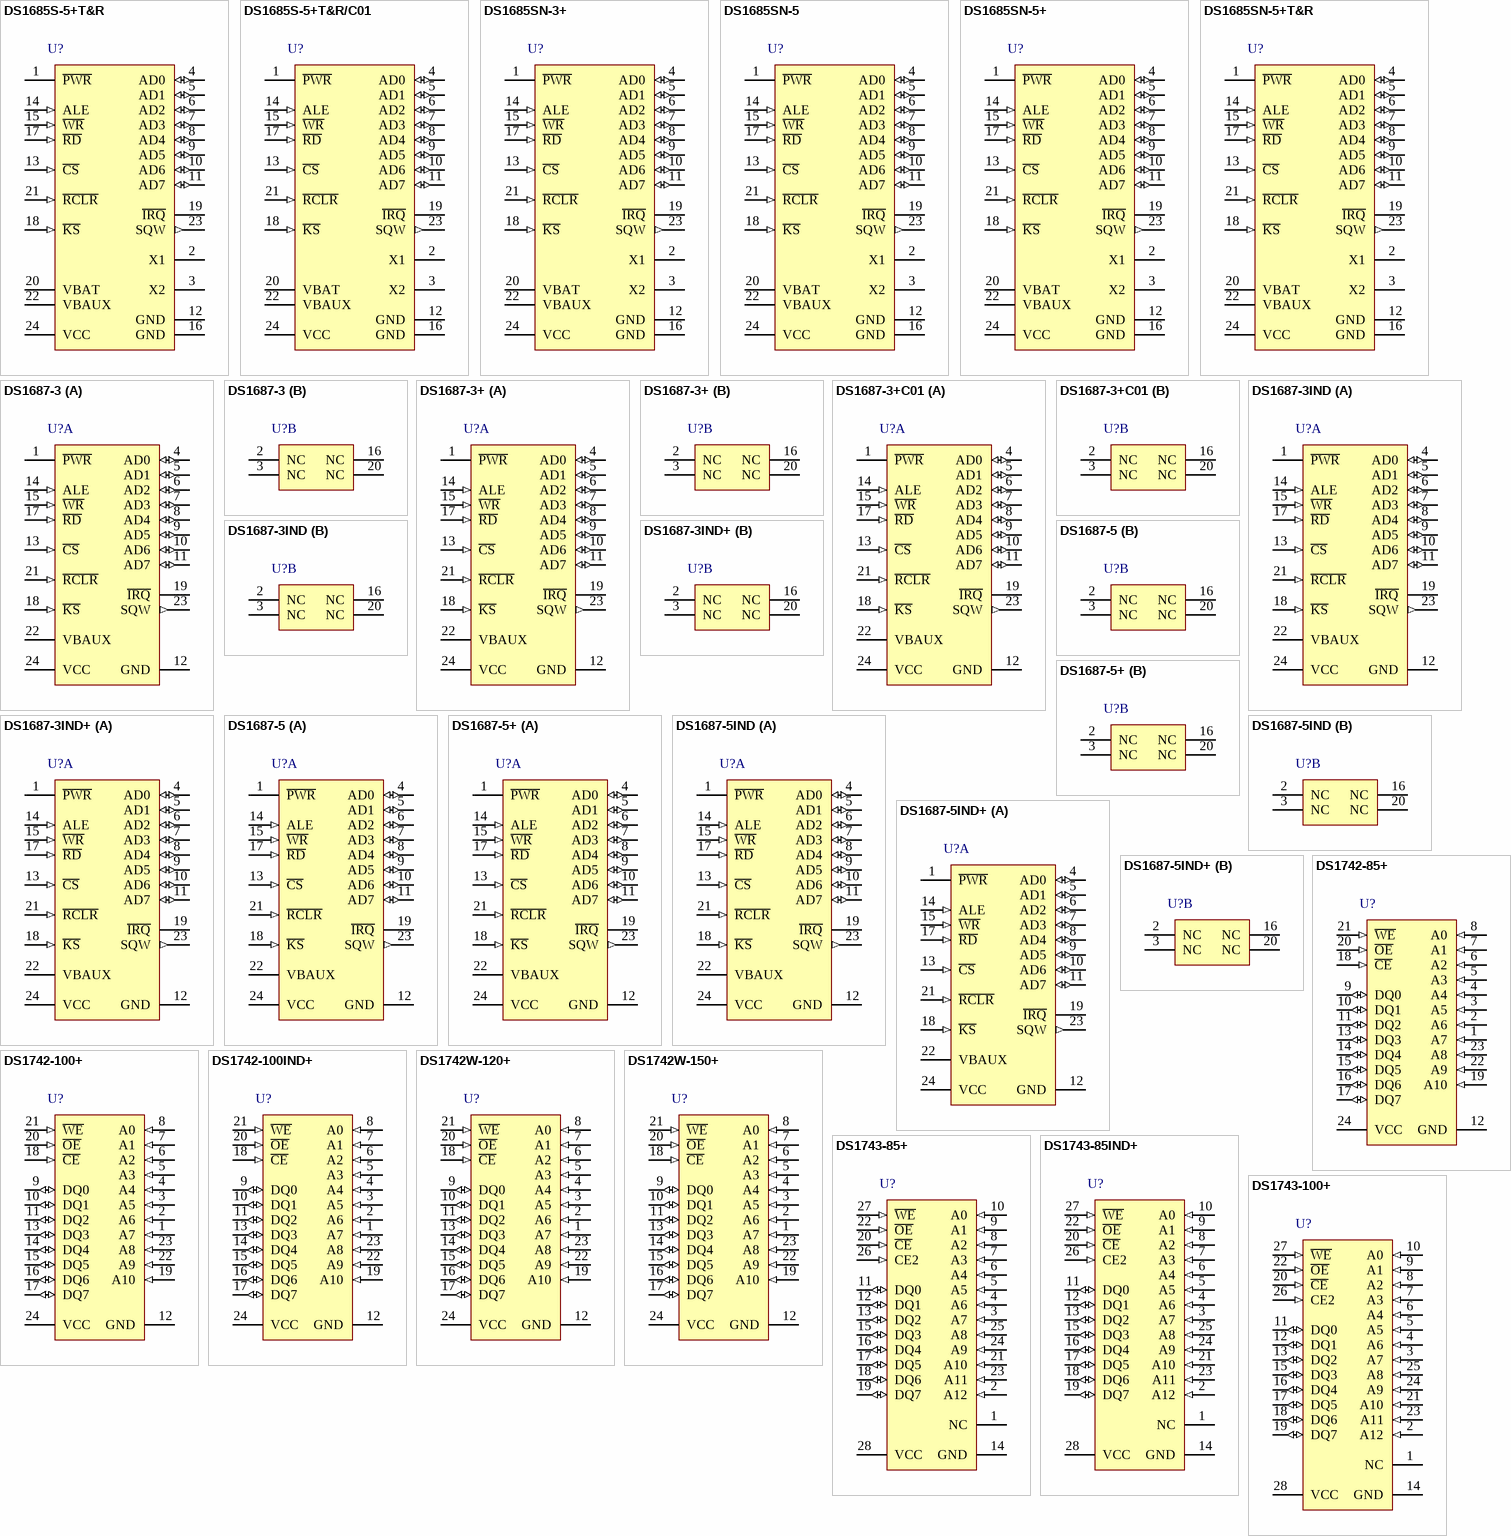
[diagram p15: symbols DS1685S-5+T&R to DS1743-100+]

## DS1685S-5+T&R
designator U?
Real-Time Clock, 242 Byte Battery-Backed NV RAM, 5.0V, 24-Pin SO, 0 to 70 degC, Pb-Free, Reel; DatasheetVersion: Apr-2010; PackageVersion: revD, 2010; PackageReference: W24+7; PackageDescription: 24-Pin Small-Outline IC, Wide (0.3in), 1.27 mm Pitch, SOIC (W), Pb-Free; Code_JEDEC: MS-013-AD; ComponentLink1Description: Manufacturer URL; ComponentLink1URL: http://www.maxim-ic.com; ComponentLink2Description: Datasheet; ComponentLink2URL: http://datasheets.maxim-ic.com/en/ds/DS1685-DS1687.pdf; ComponentLink3Description: Package Specification; ComponentLink3URL: http://pdfserv.maxim-ic.com/package_dwgs/21-0042.PDF
footprint W24+7_N (SOIC, 24-Leads, Body 15.4x7.5mm, Pitch 1.27mm, IPC Medium Density)
footprint W24+7_L (SOIC, 24-Leads, Body 15.4x7.5mm, Pitch 1.27mm, IPC High Density)
footprint W24+7_M (SOIC, 24-Leads, Body 15.4x7.5mm, Pitch 1.27mm, IPC Low Density)
pins: 1 ~{PWR} (oc), 2 X1, 3 X2, 4 AD0 (io), 5 AD1 (io), 6 AD2 (io), 7 AD3 (io), 8 AD4 (io), 9 AD5 (io), 10 AD6 (io), 11 AD7 (io), 12 GND (power), 13 ~{CS} (in), 14 ALE (in), 15 ~{WR} (in), 16 GND (power), 17 ~{RD} (in), 18 ~{KS} (in), 19 ~{IRQ} (oc), 20 VBAT (power), 21 ~{RCLR} (in), 22 VBAUX (power), 23 SQW (out), 24 VCC (power)

## DS1685S-5+T&R/C01
designator U?
Real-Time Clock, 242 Byte Battery-Backed NV RAM, 5.0V, 24-Pin SO, 0 to 70 degC, Pb-Free, Reel; DatasheetVersion: Apr-2010; PackageVersion: revD, 2010; PackageReference: W24+7; PackageDescription: 24-Pin Small-Outline IC, Wide (0.3in), 1.27 mm Pitch, SOIC (W), Pb-Free; Code_JEDEC: MS-013-AD; ComponentLink1Description: Manufacturer URL; ComponentLink1URL: http://www.maxim-ic.com; ComponentLink2Description: Datasheet; ComponentLink2URL: http://datasheets.maxim-ic.com/en/ds/DS1685-DS1687.pdf; ComponentLink3Description: Package Specification; ComponentLink3URL: http://pdfserv.maxim-ic.com/package_dwgs/21-0042.PDF
footprint W24+7_N (SOIC, 24-Leads, Body 15.4x7.5mm, Pitch 1.27mm, IPC Medium Density)
footprint W24+7_L (SOIC, 24-Leads, Body 15.4x7.5mm, Pitch 1.27mm, IPC High Density)
footprint W24+7_M (SOIC, 24-Leads, Body 15.4x7.5mm, Pitch 1.27mm, IPC Low Density)
pins: 1 ~{PWR} (oc), 2 X1, 3 X2, 4 AD0 (io), 5 AD1 (io), 6 AD2 (io), 7 AD3 (io), 8 AD4 (io), 9 AD5 (io), 10 AD6 (io), 11 AD7 (io), 12 GND (power), 13 ~{CS} (in), 14 ALE (in), 15 ~{WR} (in), 16 GND (power), 17 ~{RD} (in), 18 ~{KS} (in), 19 ~{IRQ} (oc), 20 VBAT (power), 21 ~{RCLR} (in), 22 VBAUX (power), 23 SQW (out), 24 VCC (power)

## DS1685SN-3+
designator U?
Real-Time Clock, 242 Byte Battery-Backed NV RAM, 3.0V, 24-Pin SO, -40 to 85 degC, Pb-Free; DatasheetVersion: Apr-2010; PackageVersion: revD, 2010; PackageReference: W24+7; PackageDescription: 24-Pin Small-Outline IC, Wide (0.3in), 1.27 mm Pitch, SOIC (W), Pb-Free; Code_JEDEC: MS-013-AD; ComponentLink1Description: Manufacturer URL; ComponentLink1URL: http://www.maxim-ic.com; ComponentLink2Description: Datasheet; ComponentLink2URL: http://datasheets.maxim-ic.com/en/ds/DS1685-DS1687.pdf; ComponentLink3Description: Package Specification; ComponentLink3URL: http://pdfserv.maxim-ic.com/package_dwgs/21-0042.PDF
footprint W24+7_N (SOIC, 24-Leads, Body 15.4x7.5mm, Pitch 1.27mm, IPC Medium Density)
footprint W24+7_L (SOIC, 24-Leads, Body 15.4x7.5mm, Pitch 1.27mm, IPC High Density)
footprint W24+7_M (SOIC, 24-Leads, Body 15.4x7.5mm, Pitch 1.27mm, IPC Low Density)
pins: 1 ~{PWR} (oc), 2 X1, 3 X2, 4 AD0 (io), 5 AD1 (io), 6 AD2 (io), 7 AD3 (io), 8 AD4 (io), 9 AD5 (io), 10 AD6 (io), 11 AD7 (io), 12 GND (power), 13 ~{CS} (in), 14 ALE (in), 15 ~{WR} (in), 16 GND (power), 17 ~{RD} (in), 18 ~{KS} (in), 19 ~{IRQ} (oc), 20 VBAT (power), 21 ~{RCLR} (in), 22 VBAUX (power), 23 SQW (out), 24 VCC (power)

## DS1685SN-5
designator U?
Real-Time Clock, 242 Byte Battery-Backed NV RAM, 5.0V, 24-Pin SO, -40 to 85 degC; DatasheetVersion: Apr-2010; PackageVersion: revD, 2010; PackageReference: W24-7; PackageDescription: 24-Pin Small-Outline IC, Wide (0.3in), 1.27 mm Pitch, SOIC (W); Code_JEDEC: MS-013-AD; ComponentLink1Description: Manufacturer URL; ComponentLink1URL: http://www.maxim-ic.com; ComponentLink2Description: Datasheet; ComponentLink2URL: http://datasheets.maxim-ic.com/en/ds/DS1685-DS1687.pdf; ComponentLink3Description: Package Specification; ComponentLink3URL: http://pdfserv.maxim-ic.com/package_dwgs/21-0042.PDF
footprint W24-7_N (SOIC, 24-Leads, Body 15.4x7.5mm, Pitch 1.27mm, IPC Medium Density)
footprint W24-7_L (SOIC, 24-Leads, Body 15.4x7.5mm, Pitch 1.27mm, IPC High Density)
footprint W24-7_M (SOIC, 24-Leads, Body 15.4x7.5mm, Pitch 1.27mm, IPC Low Density)
pins: 1 ~{PWR} (oc), 2 X1, 3 X2, 4 AD0 (io), 5 AD1 (io), 6 AD2 (io), 7 AD3 (io), 8 AD4 (io), 9 AD5 (io), 10 AD6 (io), 11 AD7 (io), 12 GND (power), 13 ~{CS} (in), 14 ALE (in), 15 ~{WR} (in), 16 GND (power), 17 ~{RD} (in), 18 ~{KS} (in), 19 ~{IRQ} (oc), 20 VBAT (power), 21 ~{RCLR} (in), 22 VBAUX (power), 23 SQW (out), 24 VCC (power)

## DS1685SN-5+
designator U?
Real-Time Clock, 242 Byte Battery-Backed NV RAM, 5.0V, 24-Pin SO, -40 to 85 degC, Pb-Free; DatasheetVersion: Apr-2010; PackageVersion: revD, 2010; PackageReference: W24+7; PackageDescription: 24-Pin Small-Outline IC, Wide (0.3in), 1.27 mm Pitch, SOIC (W), Pb-Free; Code_JEDEC: MS-013-AD; ComponentLink1Description: Manufacturer URL; ComponentLink1URL: http://www.maxim-ic.com; ComponentLink2Description: Datasheet; ComponentLink2URL: http://datasheets.maxim-ic.com/en/ds/DS1685-DS1687.pdf; ComponentLink3Description: Package Specification; ComponentLink3URL: http://pdfserv.maxim-ic.com/package_dwgs/21-0042.PDF
footprint W24+7_N (SOIC, 24-Leads, Body 15.4x7.5mm, Pitch 1.27mm, IPC Medium Density)
footprint W24+7_L (SOIC, 24-Leads, Body 15.4x7.5mm, Pitch 1.27mm, IPC High Density)
footprint W24+7_M (SOIC, 24-Leads, Body 15.4x7.5mm, Pitch 1.27mm, IPC Low Density)
pins: 1 ~{PWR} (oc), 2 X1, 3 X2, 4 AD0 (io), 5 AD1 (io), 6 AD2 (io), 7 AD3 (io), 8 AD4 (io), 9 AD5 (io), 10 AD6 (io), 11 AD7 (io), 12 GND (power), 13 ~{CS} (in), 14 ALE (in), 15 ~{WR} (in), 16 GND (power), 17 ~{RD} (in), 18 ~{KS} (in), 19 ~{IRQ} (oc), 20 VBAT (power), 21 ~{RCLR} (in), 22 VBAUX (power), 23 SQW (out), 24 VCC (power)

## DS1685SN-5+T&R
designator U?
Real-Time Clock, 242 Byte Battery-Backed NV RAM, 5.0V, 24-Pin SO, -40 to 85 degC, Pb-Free, Reel; DatasheetVersion: Apr-2010; PackageVersion: revD, 2010; PackageReference: W24+7; PackageDescription: 24-Pin Small-Outline IC, Wide (0.3in), 1.27 mm Pitch, SOIC (W), Pb-Free; Code_JEDEC: MS-013-AD; ComponentLink1Description: Manufacturer URL; ComponentLink1URL: http://www.maxim-ic.com; ComponentLink2Description: Datasheet; ComponentLink2URL: http://datasheets.maxim-ic.com/en/ds/DS1685-DS1687.pdf; ComponentLink3Description: Package Specification; ComponentLink3URL: http://pdfserv.maxim-ic.com/package_dwgs/21-0042.PDF
footprint W24+7_N (SOIC, 24-Leads, Body 15.4x7.5mm, Pitch 1.27mm, IPC Medium Density)
footprint W24+7_L (SOIC, 24-Leads, Body 15.4x7.5mm, Pitch 1.27mm, IPC High Density)
footprint W24+7_M (SOIC, 24-Leads, Body 15.4x7.5mm, Pitch 1.27mm, IPC Low Density)
pins: 1 ~{PWR} (oc), 2 X1, 3 X2, 4 AD0 (io), 5 AD1 (io), 6 AD2 (io), 7 AD3 (io), 8 AD4 (io), 9 AD5 (io), 10 AD6 (io), 11 AD7 (io), 12 GND (power), 13 ~{CS} (in), 14 ALE (in), 15 ~{WR} (in), 16 GND (power), 17 ~{RD} (in), 18 ~{KS} (in), 19 ~{IRQ} (oc), 20 VBAT (power), 21 ~{RCLR} (in), 22 VBAUX (power), 23 SQW (out), 24 VCC (power)

## DS1687-3
designator U?
Real-Time Clock, 242 Byte Battery-Backed NV RAM, 3.0V, 24-Pin EDIP, 0 to 70 degC; DatasheetVersion: Apr-2010; PackageVersion: revA, Feb-2009; PackageReference: MDP24-2; PackageDescription: 24-Pin Encapsulated Dual-In-Line Module, 2.54 mm Pitch, EDIP, 740-mil; ComponentLink1Description: Manufacturer URL; ComponentLink1URL: http://www.maxim-ic.com; ComponentLink2Description: Datasheet; ComponentLink2URL: http://datasheets.maxim-ic.com/en/ds/DS1685-DS1687.pdf; ComponentLink3Description: Package Specification; ComponentLink3URL: http://pdfserv.maxim-ic.com/package_dwgs/21-0241.PDF
footprint MDP24-2 (DIP; 24 Rectangular Pins, Body 33.8x18.5mm, Row Space 15.24mm, Pitch 2.54mm)
part A pins: 1 ~{PWR} (oc), 4 AD0 (io), 5 AD1 (io), 6 AD2 (io), 7 AD3 (io), 8 AD4 (io), 9 AD5 (io), 10 AD6 (io), 11 AD7 (io), 12 GND (power), 13 ~{CS} (in), 14 ALE (in), 15 ~{WR} (in), 17 ~{RD} (in), 18 ~{KS} (in), 19 ~{IRQ} (oc), 21 ~{RCLR} (in), 22 VBAUX (power), 23 SQW (out), 24 VCC (power)
part B pins: 2 NC, 3 NC, 16 NC, 20 NC

## DS1687-3+
designator U?
Real-Time Clock, 242 Byte Battery-Backed NV RAM, 3.0V, 24-Pin EDIP, 0 to 70 degC, Pb-Free; DatasheetVersion: Apr-2010; PackageVersion: revA, Feb-2009; PackageReference: MDP24+2; PackageDescription: 24-Pin Encapsulated Dual-In-Line Module, 2.54 mm Pitch, EDIP, 740-mil, Pb-Free; ComponentLink1Description: Manufacturer URL; ComponentLink1URL: http://www.maxim-ic.com; ComponentLink2Description: Datasheet; ComponentLink2URL: http://datasheets.maxim-ic.com/en/ds/DS1685-DS1687.pdf; ComponentLink3Description: Package Specification; ComponentLink3URL: http://pdfserv.maxim-ic.com/package_dwgs/21-0241.PDF
footprint MDP24+2 (DIP; 24 Rectangular Pins, Body 33.8x18.5mm, Row Space 15.24mm, Pitch 2.54mm)
part A pins: 1 ~{PWR} (oc), 4 AD0 (io), 5 AD1 (io), 6 AD2 (io), 7 AD3 (io), 8 AD4 (io), 9 AD5 (io), 10 AD6 (io), 11 AD7 (io), 12 GND (power), 13 ~{CS} (in), 14 ALE (in), 15 ~{WR} (in), 17 ~{RD} (in), 18 ~{KS} (in), 19 ~{IRQ} (oc), 21 ~{RCLR} (in), 22 VBAUX (power), 23 SQW (out), 24 VCC (power)
part B pins: 2 NC, 3 NC, 16 NC, 20 NC

## DS1687-3+C01
designator U?
Real-Time Clock, 242 Byte Battery-Backed NV RAM, 3.0V, 24-Pin EDIP, 0 to 70 degC, Pb-Free; DatasheetVersion: Apr-2010; PackageVersion: revA, Feb-2009; PackageReference: MDP24+2; PackageDescription: 24-Pin Encapsulated Dual-In-Line Module, 2.54 mm Pitch, EDIP, 740-mil, Pb-Free; ComponentLink1Description: Manufacturer URL; ComponentLink1URL: http://www.maxim-ic.com; ComponentLink2Description: Datasheet; ComponentLink2URL: http://datasheets.maxim-ic.com/en/ds/DS1685-DS1687.pdf; ComponentLink3Description: Package Specification; ComponentLink3URL: http://pdfserv.maxim-ic.com/package_dwgs/21-0241.PDF
footprint MDP24+2 (DIP; 24 Rectangular Pins, Body 33.8x18.5mm, Row Space 15.24mm, Pitch 2.54mm)
part A pins: 1 ~{PWR} (oc), 4 AD0 (io), 5 AD1 (io), 6 AD2 (io), 7 AD3 (io), 8 AD4 (io), 9 AD5 (io), 10 AD6 (io), 11 AD7 (io), 12 GND (power), 13 ~{CS} (in), 14 ALE (in), 15 ~{WR} (in), 17 ~{RD} (in), 18 ~{KS} (in), 19 ~{IRQ} (oc), 21 ~{RCLR} (in), 22 VBAUX (power), 23 SQW (out), 24 VCC (power)
part B pins: 2 NC, 3 NC, 16 NC, 20 NC

## DS1687-3IND
designator U?
Real-Time Clock, 242 Byte Battery-Backed NV RAM, 3.0V, 24-Pin EDIP, -40 to 85 degC; DatasheetVersion: Apr-2010; PackageVersion: revA, Feb-2009; PackageReference: MDP24-2; PackageDescription: 24-Pin Encapsulated Dual-In-Line Module, 2.54 mm Pitch, EDIP, 740-mil; ComponentLink1Description: Manufacturer URL; ComponentLink1URL: http://www.maxim-ic.com; ComponentLink2Description: Datasheet; ComponentLink2URL: http://datasheets.maxim-ic.com/en/ds/DS1685-DS1687.pdf; ComponentLink3Description: Package Specification; ComponentLink3URL: http://pdfserv.maxim-ic.com/package_dwgs/21-0241.PDF
footprint MDP24-2 (DIP; 24 Rectangular Pins, Body 33.8x18.5mm, Row Space 15.24mm, Pitch 2.54mm)
part A pins: 1 ~{PWR} (oc), 4 AD0 (io), 5 AD1 (io), 6 AD2 (io), 7 AD3 (io), 8 AD4 (io), 9 AD5 (io), 10 AD6 (io), 11 AD7 (io), 12 GND (power), 13 ~{CS} (in), 14 ALE (in), 15 ~{WR} (in), 17 ~{RD} (in), 18 ~{KS} (in), 19 ~{IRQ} (oc), 21 ~{RCLR} (in), 22 VBAUX (power), 23 SQW (out), 24 VCC (power)
part B pins: 2 NC, 3 NC, 16 NC, 20 NC